# Altium integrated library ind-WE-LHMI (rev21a).IntLib: 164 symbols (part 1 of 3)
Pins are listed as number, name and electrical type; pins without a type are passive.

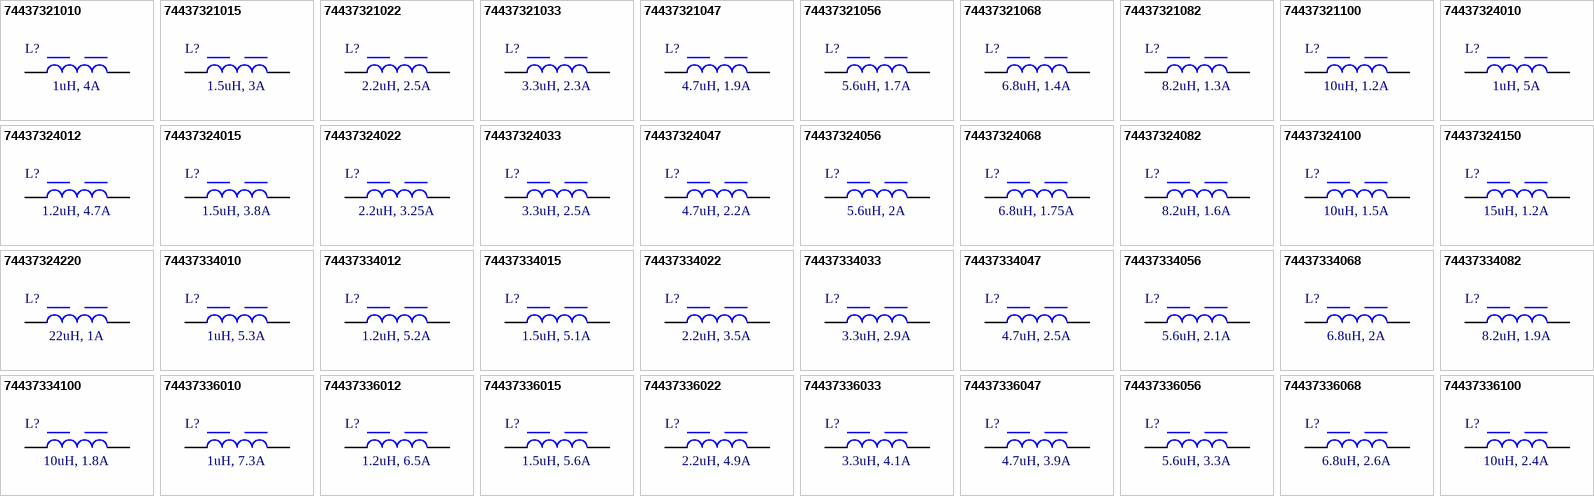
[diagram p0: symbols 74437321010 to 74437336100]

## 74437321010
designator L?, comment 1uH, 4A
WE-LHMI SMT Power Inductor, size 4012, 1uH, 4A; Manufacturer: Wurth Elektronik; Manufacturer Part Number: 74437321010; Self Resonant Frequency: 90MHz; DC Resistance typ.: 41mOhm; DC Resistance max.: 47mOhm; Saturation Current @10%: 5.65A; Saturation Current @30%: 10A; ComponentLink1Description: Manufacturer; ComponentLink1URL: http://www.we-online.de; ComponentLink2Description: Datasheet; ComponentLink2URL: https://www.we-online.com/catalog/datasheet/74437321010.pdf; Mounting Technology: SMT; Operating Temperature: -40 to +125degC; Packaging: Tape and Reel; Inductance: 1uH; Rated Current: 4A; Size: 4012; Height: 1mm; Length: 4.06mm; Width: 4.06mm
footprint WE-LHMI_4012
pins: 1, 2

## 74437321015
designator L?, comment 1.5uH, 3A
WE-LHMI SMT Power Inductor, size 4012, 1.5uH, 3A; Manufacturer: Wurth Elektronik; Manufacturer Part Number: 74437321015; Self Resonant Frequency: 60MHz; DC Resistance typ.: 55mOhm; DC Resistance max.: 63.3mOhm; Saturation Current @10%: 2.7A; Saturation Current @30%: 5.1A; ComponentLink1Description: Manufacturer; ComponentLink1URL: http://www.we-online.de; ComponentLink2Description: Datasheet; ComponentLink2URL: https://www.we-online.com/catalog/datasheet/74437321015.pdf; Mounting Technology: SMT; Operating Temperature: -40 to +125degC; Packaging: Tape and Reel; Inductance: 1.5uH; Rated Current: 3A; Size: 4012; Height: 1mm; Length: 4.06mm; Width: 4.06mm
footprint WE-LHMI_4012
pins: 1, 2

## 74437321022
designator L?, comment 2.2uH, 2.5A
WE-LHMI SMT Power Inductor, size 4012, 2.2uH, 2.5A; Manufacturer: Wurth Elektronik; Manufacturer Part Number: 74437321022; Self Resonant Frequency: 55MHz; DC Resistance typ.: 69.2mOhm; DC Resistance max.: 80mOhm; Saturation Current @10%: 3.2A; Saturation Current @30%: 6.2A; ComponentLink1Description: Manufacturer; ComponentLink1URL: http://www.we-online.de; ComponentLink2Description: Datasheet; ComponentLink2URL: https://www.we-online.com/catalog/datasheet/74437321022.pdf; Mounting Technology: SMT; Operating Temperature: -40 to +125degC; Packaging: Tape and Reel; Inductance: 2.2uH; Rated Current: 2.5A; Size: 4012; Height: 1mm; Length: 4.06mm; Width: 4.06mm
footprint WE-LHMI_4012
pins: 1, 2

## 74437321033
designator L?, comment 3.3uH, 2.3A
WE-LHMI SMT Power Inductor, size 4012, 3.3uH, 2.3A; Manufacturer: Wurth Elektronik; Manufacturer Part Number: 74437321033; Self Resonant Frequency: 40MHz; DC Resistance typ.: 84mOhm; DC Resistance max.: 97mOhm; Saturation Current @10%: 2.6A; Saturation Current @30%: 4.8A; ComponentLink1Description: Manufacturer; ComponentLink1URL: http://www.we-online.de; ComponentLink2Description: Datasheet; ComponentLink2URL: https://www.we-online.com/catalog/datasheet/74437321033.pdf; Mounting Technology: SMT; Operating Temperature: -40 to +125degC; Packaging: Tape and Reel; Inductance: 3.3uH; Rated Current: 2.3A; Size: 4012; Height: 1mm; Length: 4.06mm; Width: 4.06mm
footprint WE-LHMI_4012
pins: 1, 2

## 74437321047
designator L?, comment 4.7uH, 1.9A
WE-LHMI SMT Power Inductor, size 4012, 4.7uH, 1.9A; Manufacturer: Wurth Elektronik; Manufacturer Part Number: 74437321047; Self Resonant Frequency: 34MHz; DC Resistance typ.: 128mOhm; DC Resistance max.: 145mOhm; Saturation Current @10%: 2.1A; Saturation Current @30%: 4.1A; ComponentLink1Description: Manufacturer; ComponentLink1URL: http://www.we-online.de; ComponentLink2Description: Datasheet; ComponentLink2URL: https://www.we-online.com/catalog/datasheet/74437321047.pdf; Mounting Technology: SMT; Operating Temperature: -40 to +125degC; Packaging: Tape and Reel; Inductance: 4.7uH; Rated Current: 1.9A; Size: 4012; Height: 1mm; Length: 4.06mm; Width: 4.06mm
footprint WE-LHMI_4012
pins: 1, 2

## 74437321056
designator L?, comment 5.6uH, 1.7A
WE-LHMI SMT Power Inductor, size 4012, 5.6uH, 1.7A; Manufacturer: Wurth Elektronik; Manufacturer Part Number: 74437321056; Self Resonant Frequency: 28MHz; DC Resistance typ.: 180mOhm; DC Resistance max.: 208mOhm; Saturation Current @10%: 1.95A; Saturation Current @30%: 3.65A; ComponentLink1Description: Manufacturer; ComponentLink1URL: http://www.we-online.de; ComponentLink2Description: Datasheet; ComponentLink2URL: https://www.we-online.com/catalog/datasheet/74437321056.pdf; Mounting Technology: SMT; Operating Temperature: -40 to +125degC; Packaging: Tape and Reel; Inductance: 5.6uH; Rated Current: 1.7A; Size: 4012; Height: 1mm; Length: 4.06mm; Width: 4.06mm
footprint WE-LHMI_4012
pins: 1, 2

## 74437321068
designator L?, comment 6.8uH, 1.4A
WE-LHMI SMT Power Inductor, size 4012, 6.8uH, 1.4A; Manufacturer: Wurth Elektronik; Manufacturer Part Number: 74437321068; Self Resonant Frequency: 25MHz; DC Resistance typ.: 300mOhm; DC Resistance max.: 360mOhm; Saturation Current @10%: 1.65A; Saturation Current @30%: 3.05A; ComponentLink1Description: Manufacturer; ComponentLink1URL: http://www.we-online.de; ComponentLink2Description: Datasheet; ComponentLink2URL: https://www.we-online.com/catalog/datasheet/74437321068.pdf; Mounting Technology: SMT; Operating Temperature: -40 to +125degC; Packaging: Tape and Reel; Inductance: 6.8uH; Rated Current: 1.4A; Size: 4012; Height: 1mm; Length: 4.06mm; Width: 4.06mm
footprint WE-LHMI_4012
pins: 1, 2

## 74437321082
designator L?, comment 8.2uH, 1.3A
WE-LHMI SMT Power Inductor, size 4012, 8.2uH, 1.3A; Manufacturer: Wurth Elektronik; Manufacturer Part Number: 74437321082; Self Resonant Frequency: 24MHz; DC Resistance typ.: 313mOhm; DC Resistance max.: 376mOhm; Saturation Current @10%: 1.65A; Saturation Current @30%: 2.85A; ComponentLink1Description: Manufacturer; ComponentLink1URL: http://www.we-online.de; ComponentLink2Description: Datasheet; ComponentLink2URL: https://www.we-online.com/catalog/datasheet/74437321082.pdf; Mounting Technology: SMT; Operating Temperature: -40 to +125degC; Packaging: Tape and Reel; Inductance: 8.2uH; Rated Current: 1.3A; Size: 4012; Height: 1mm; Length: 4.06mm; Width: 4.06mm
footprint WE-LHMI_4012
pins: 1, 2

## 74437321100
designator L?, comment 10uH, 1.2A
WE-LHMI SMT Power Inductor, size 4012, 10uH, 1.2A; Manufacturer: Wurth Elektronik; Manufacturer Part Number: 74437321100; Self Resonant Frequency: 23MHz; DC Resistance typ.: 410mOhm; DC Resistance max.: 463mOhm; Saturation Current @10%: 1.5A; Saturation Current @30%: 2.65A; ComponentLink1Description: Manufacturer; ComponentLink1URL: http://www.we-online.de; ComponentLink2Description: Datasheet; ComponentLink2URL: https://www.we-online.com/catalog/datasheet/74437321100.pdf; Mounting Technology: SMT; Operating Temperature: -40 to +125degC; Packaging: Tape and Reel; Inductance: 10uH; Rated Current: 1.2A; Size: 4012; Height: 1mm; Length: 4.06mm; Width: 4.06mm
footprint WE-LHMI_4012
pins: 1, 2

## 74437324010
designator L?, comment 1uH, 5A
WE-LHMI SMT Power Inductor, size 4020, 1uH, 5A; Manufacturer: Wurth Elektronik; Manufacturer Part Number: 74437324010; Self Resonant Frequency: 89MHz; DC Resistance typ.: 22mOhm; DC Resistance max.: 27mOhm; Saturation Current @10%: 6.5A; Saturation Current @30%: 12.5A; ComponentLink1Description: Manufacturer; ComponentLink1URL: http://www.we-online.de; ComponentLink2Description: Datasheet; ComponentLink2URL: https://www.we-online.com/catalog/datasheet/74437324010.pdf; Mounting Technology: SMT; Operating Temperature: -40 to +125degC; Packaging: Tape and Reel; Inductance: 1uH; Rated Current: 5A; Size: 4020; Height: 1.8mm; Length: 4.06mm; Width: 4.06mm
footprint WE-LHMI_4020
pins: 1, 2

## 74437324012
designator L?, comment 1.2uH, 4.7A
WE-LHMI SMT Power Inductor, size 4020, 1.2uH, 4.7A; Manufacturer: Wurth Elektronik; Manufacturer Part Number: 74437324012; Self Resonant Frequency: 71MHz; DC Resistance typ.: 25mOhm; DC Resistance max.: 30mOhm; Saturation Current @10%: 6.3A; Saturation Current @30%: 11.6A; ComponentLink1Description: Manufacturer; ComponentLink1URL: http://www.we-online.de; ComponentLink2Description: Datasheet; ComponentLink2URL: https://www.we-online.com/catalog/datasheet/74437324012.pdf; Mounting Technology: SMT; Operating Temperature: -40 to +125degC; Packaging: Tape and Reel; Inductance: 1.2uH; Rated Current: 4.7A; Size: 4020; Height: 1.8mm; Length: 4.06mm; Width: 4.06mm
footprint WE-LHMI_4020
pins: 1, 2

## 74437324015
designator L?, comment 1.5uH, 3.8A
WE-LHMI SMT Power Inductor, size 4020, 1.5uH, 3.8A; Manufacturer: Wurth Elektronik; Manufacturer Part Number: 74437324015; Self Resonant Frequency: 64MHz; DC Resistance typ.: 34.8mOhm; DC Resistance max.: 42mOhm; Saturation Current @10%: 5.65A; Saturation Current @30%: 10.1A; ComponentLink1Description: Manufacturer; ComponentLink1URL: http://www.we-online.de; ComponentLink2Description: Datasheet; ComponentLink2URL: https://www.we-online.com/catalog/datasheet/74437324015.pdf; Mounting Technology: SMT; Operating Temperature: -40 to +125degC; Packaging: Tape and Reel; Inductance: 1.5uH; Rated Current: 3.8A; Size: 4020; Height: 1.8mm; Length: 4.06mm; Width: 4.06mm
footprint WE-LHMI_4020
pins: 1, 2

## 74437324022
designator L?, comment 2.2uH, 3.25A
WE-LHMI SMT Power Inductor, size 4020, 2.2uH, 3.25A; Manufacturer: Wurth Elektronik; Manufacturer Part Number: 74437324022; Self Resonant Frequency: 49MHz; DC Resistance typ.: 51mOhm; DC Resistance max.: 61mOhm; Saturation Current @10%: 4.45A; Saturation Current @30%: 8.4A; ComponentLink1Description: Manufacturer; ComponentLink1URL: http://www.we-online.de; ComponentLink2Description: Datasheet; ComponentLink2URL: https://www.we-online.com/catalog/datasheet/74437324022.pdf; Mounting Technology: SMT; Operating Temperature: -40 to +125degC; Packaging: Tape and Reel; Inductance: 2.2uH; Rated Current: 3.25A; Size: 4020; Height: 1.8mm; Length: 4.06mm; Width: 4.06mm
footprint WE-LHMI_4020
pins: 1, 2

## 74437324033
designator L?, comment 3.3uH, 2.5A
WE-LHMI SMT Power Inductor, size 4020, 3.3uH, 2.5A; Manufacturer: Wurth Elektronik; Manufacturer Part Number: 74437324033; Self Resonant Frequency: 40MHz; DC Resistance typ.: 69mOhm; DC Resistance max.: 76mOhm; Saturation Current @10%: 2.75A; Saturation Current @30%: 5.45A; ComponentLink1Description: Manufacturer; ComponentLink1URL: http://www.we-online.de; ComponentLink2Description: Datasheet; ComponentLink2URL: https://www.we-online.com/catalog/datasheet/74437324033.pdf; Mounting Technology: SMT; Operating Temperature: -40 to +125degC; Packaging: Tape and Reel; Inductance: 3.3uH; Rated Current: 2.5A; Size: 4020; Height: 1.8mm; Length: 4.06mm; Width: 4.06mm
footprint WE-LHMI_4020
pins: 1, 2

## 74437324047
designator L?, comment 4.7uH, 2.2A
WE-LHMI SMT Power Inductor, size 4020, 4.7uH, 2.2A; Manufacturer: Wurth Elektronik; Manufacturer Part Number: 74437324047; Self Resonant Frequency: 31MHz; DC Resistance typ.: 95mOhm; DC Resistance max.: 105mOhm; Saturation Current @10%: 2.45A; Saturation Current @30%: 5.4A; ComponentLink1Description: Manufacturer; ComponentLink1URL: http://www.we-online.de; ComponentLink2Description: Datasheet; ComponentLink2URL: https://www.we-online.com/catalog/datasheet/74437324047.pdf; Mounting Technology: SMT; Operating Temperature: -40 to +125degC; Packaging: Tape and Reel; Inductance: 4.7uH; Rated Current: 2.2A; Size: 4020; Height: 1.8mm; Length: 4.06mm; Width: 4.06mm
footprint WE-LHMI_4020
pins: 1, 2

## 74437324056
designator L?, comment 5.6uH, 2A
WE-LHMI SMT Power Inductor, size 4020, 5.6uH, 2A; Manufacturer: Wurth Elektronik; Manufacturer Part Number: 74437324056; Self Resonant Frequency: 30MHz; DC Resistance typ.: 120mOhm; DC Resistance max.: 125mOhm; Saturation Current @10%: 2.4A; Saturation Current @30%: 5.1A; ComponentLink1Description: Manufacturer; ComponentLink1URL: http://www.we-online.de; ComponentLink2Description: Datasheet; ComponentLink2URL: https://www.we-online.com/catalog/datasheet/74437324056.pdf; Mounting Technology: SMT; Operating Temperature: -40 to +125degC; Packaging: Tape and Reel; Inductance: 5.6uH; Rated Current: 2A; Size: 4020; Height: 1.8mm; Length: 4.06mm; Width: 4.06mm
footprint WE-LHMI_4020
pins: 1, 2

## 74437324068
designator L?, comment 6.8uH, 1.75A
WE-LHMI SMT Power Inductor, size 4020, 6.8uH, 1.75A; Manufacturer: Wurth Elektronik; Manufacturer Part Number: 74437324068; Self Resonant Frequency: 29MHz; DC Resistance typ.: 150mOhm; DC Resistance max.: 172mOhm; Saturation Current @10%: 2.4A; Saturation Current @30%: 4.75A; ComponentLink1Description: Manufacturer; ComponentLink1URL: http://www.we-online.de; ComponentLink2Description: Datasheet; ComponentLink2URL: https://www.we-online.com/catalog/datasheet/74437324068.pdf; Mounting Technology: SMT; Operating Temperature: -40 to +125degC; Packaging: Tape and Reel; Inductance: 6.8uH; Rated Current: 1.75A; Size: 4020; Height: 1.8mm; Length: 4.06mm; Width: 4.06mm
footprint WE-LHMI_4020
pins: 1, 2

## 74437324082
designator L?, comment 8.2uH, 1.6A
WE-LHMI SMT Power Inductor, size 4020, 8.2uH, 1.6A; Manufacturer: Wurth Elektronik; Manufacturer Part Number: 74437324082; Self Resonant Frequency: 22MHz; DC Resistance typ.: 158mOhm; DC Resistance max.: 180mOhm; Saturation Current @10%: 1.8A; Saturation Current @30%: 3.8A; ComponentLink1Description: Manufacturer; ComponentLink1URL: http://www.we-online.de; ComponentLink2Description: Datasheet; ComponentLink2URL: https://www.we-online.com/catalog/datasheet/74437324082.pdf; Mounting Technology: SMT; Operating Temperature: -40 to +125degC; Packaging: Tape and Reel; Inductance: 8.2uH; Rated Current: 1.6A; Size: 4020; Height: 1.8mm; Length: 4.06mm; Width: 4.06mm
footprint WE-LHMI_4020
pins: 1, 2

## 74437324100
designator L?, comment 10uH, 1.5A
WE-LHMI SMT Power Inductor, size 4020, 10uH, 1.5A; Manufacturer: Wurth Elektronik; Manufacturer Part Number: 74437324100; Self Resonant Frequency: 23MHz; DC Resistance typ.: 215mOhm; DC Resistance max.: 243mOhm; Saturation Current @30%: 3.15A; ComponentLink1Description: Manufacturer; ComponentLink1URL: http://www.we-online.de; ComponentLink2Description: Datasheet; ComponentLink2URL: https://www.we-online.com/catalog/datasheet/74437324100.pdf; Mounting Technology: SMT; Operating Temperature: -40 to +125degC; Packaging: Tape and Reel; Inductance: 10uH; Rated Current: 1.5A; Saturation Current @10%: 1.5A; Size: 4020; Height: 1.8mm; Length: 4.06mm; Width: 4.06mm
footprint WE-LHMI_4020
pins: 1, 2

## 74437324150
designator L?, comment 15uH, 1.2A
WE-LHMI SMT Power Inductor, size 4020, 15uH, 1.2A; Manufacturer: Wurth Elektronik; Manufacturer Part Number: 74437324150; Self Resonant Frequency: 17MHz; DC Resistance typ.: 325mOhm; DC Resistance max.: 374mOhm; Saturation Current @10%: 1.35A; Saturation Current @30%: 2.75A; ComponentLink1Description: Manufacturer; ComponentLink1URL: http://www.we-online.de; ComponentLink2Description: Datasheet; ComponentLink2URL: https://www.we-online.com/catalog/datasheet/74437324150.pdf; Mounting Technology: SMT; Operating Temperature: -40 to +125degC; Packaging: Tape and Reel; Inductance: 15uH; Rated Current: 1.2A; Size: 4020; Height: 1.8mm; Length: 4.06mm; Width: 4.06mm
footprint WE-LHMI_4020
pins: 1, 2

## 74437324220
designator L?, comment 22uH, 1A
WE-LHMI SMT Power Inductor, size 4020, 22uH, 1A; Manufacturer: Wurth Elektronik; Manufacturer Part Number: 74437324220; Self Resonant Frequency: 14MHz; DC Resistance typ.: 470mOhm; DC Resistance max.: 500mOhm; Saturation Current @10%: 1.45A; Saturation Current @30%: 2.35A; ComponentLink1Description: Manufacturer; ComponentLink1URL: http://www.we-online.de; ComponentLink2Description: Datasheet; ComponentLink2URL: https://www.we-online.com/catalog/datasheet/74437324220.pdf; Mounting Technology: SMT; Operating Temperature: -40 to +125degC; Packaging: Tape and Reel; Inductance: 22uH; Rated Current: 1A; Size: 4020; Height: 1.8mm; Length: 4.06mm; Width: 4.06mm
footprint WE-LHMI_4020
pins: 1, 2

## 74437334010
designator L?, comment 1uH, 5.3A
WE-LHMI SMT Power Inductor, size 5020, 1uH, 5.3A; Manufacturer: Wurth Elektronik; Manufacturer Part Number: 74437334010; Self Resonant Frequency: 65MHz; DC Resistance typ.: 17.5mOhm; DC Resistance max.: 20mOhm; Saturation Current @10%: 9.2A; Saturation Current @30%: 17.7A; ComponentLink1Description: Manufacturer; ComponentLink1URL: http://www.we-online.de; ComponentLink2Description: Datasheet; ComponentLink2URL: https://www.we-online.com/catalog/datasheet/74437334010.pdf; Mounting Technology: SMT; Operating Temperature: -40 to +125degC; Packaging: Tape and Reel; Inductance: 1uH; Rated Current: 5.3A; Size: 5020; Height: 1.8mm; Length: 5.2mm; Width: 5.2mm
footprint WE-LHMI_5020
pins: 1, 2

## 74437334012
designator L?, comment 1.2uH, 5.2A
WE-LHMI SMT Power Inductor, size 5020, 1.2uH, 5.2A; Manufacturer: Wurth Elektronik; Manufacturer Part Number: 74437334012; Self Resonant Frequency: 60MHz; DC Resistance typ.: 23mOhm; DC Resistance max.: 28mOhm; Saturation Current @10%: 7.5A; Saturation Current @30%: 14A; ComponentLink1Description: Manufacturer; ComponentLink1URL: http://www.we-online.de; ComponentLink2Description: Datasheet; ComponentLink2URL: https://www.we-online.com/catalog/datasheet/74437334012.pdf; Mounting Technology: SMT; Operating Temperature: -40 to +125degC; Packaging: Tape and Reel; Inductance: 1.2uH; Rated Current: 5.2A; Size: 5020; Height: 1.8mm; Length: 5.2mm; Width: 5.2mm
footprint WE-LHMI_5020
pins: 1, 2

## 74437334015
designator L?, comment 1.5uH, 5.1A
WE-LHMI SMT Power Inductor, size 5020, 1.5uH, 5.1A; Manufacturer: Wurth Elektronik; Manufacturer Part Number: 74437334015; Self Resonant Frequency: 50MHz; DC Resistance typ.: 26.5mOhm; DC Resistance max.: 30.5mOhm; Saturation Current @10%: 6.6A; Saturation Current @30%: 13.6A; ComponentLink1Description: Manufacturer; ComponentLink1URL: http://www.we-online.de; ComponentLink2Description: Datasheet; ComponentLink2URL: https://www.we-online.com/catalog/datasheet/74437334015.pdf; Mounting Technology: SMT; Operating Temperature: -40 to +125degC; Packaging: Tape and Reel; Inductance: 1.5uH; Rated Current: 5.1A; Size: 5020; Height: 1.8mm; Length: 5.2mm; Width: 5.2mm
footprint WE-LHMI_5020
pins: 1, 2

## 74437334022
designator L?, comment 2.2uH, 3.5A
WE-LHMI SMT Power Inductor, size 5020, 2.2uH, 3.5A; Manufacturer: Wurth Elektronik; Manufacturer Part Number: 74437334022; Self Resonant Frequency: 46MHz; DC Resistance typ.: 42mOhm; DC Resistance max.: 50mOhm; Saturation Current @10%: 6.4A; Saturation Current @30%: 11.9A; ComponentLink1Description: Manufacturer; ComponentLink1URL: http://www.we-online.de; ComponentLink2Description: Datasheet; ComponentLink2URL: https://www.we-online.com/catalog/datasheet/74437334022.pdf; Mounting Technology: SMT; Operating Temperature: -40 to +125degC; Packaging: Tape and Reel; Inductance: 2.2uH; Rated Current: 3.5A; Size: 5020; Height: 1.8mm; Length: 5.2mm; Width: 5.2mm
footprint WE-LHMI_5020
pins: 1, 2

## 74437334033
designator L?, comment 3.3uH, 2.9A
WE-LHMI SMT Power Inductor, size 5020, 3.3uH, 2.9A; Manufacturer: Wurth Elektronik; Manufacturer Part Number: 74437334033; Self Resonant Frequency: 35MHz; DC Resistance typ.: 66mOhm; DC Resistance max.: 76mOhm; Saturation Current @10%: 5.25A; Saturation Current @30%: 9.6A; ComponentLink1Description: Manufacturer; ComponentLink1URL: http://www.we-online.de; ComponentLink2Description: Datasheet; ComponentLink2URL: https://www.we-online.com/catalog/datasheet/74437334033.pdf; Mounting Technology: SMT; Operating Temperature: -40 to +125degC; Packaging: Tape and Reel; Inductance: 3.3uH; Rated Current: 2.9A; Size: 5020; Height: 1.8mm; Length: 5.2mm; Width: 5.2mm
footprint WE-LHMI_5020
pins: 1, 2

## 74437334047
designator L?, comment 4.7uH, 2.5A
WE-LHMI SMT Power Inductor, size 5020, 4.7uH, 2.5A; Manufacturer: Wurth Elektronik; Manufacturer Part Number: 74437334047; Self Resonant Frequency: 27MHz; DC Resistance typ.: 103mOhm; DC Resistance max.: 116mOhm; Saturation Current @10%: 4.1A; Saturation Current @30%: 7.5A; ComponentLink1Description: Manufacturer; ComponentLink1URL: http://www.we-online.de; ComponentLink2Description: Datasheet; ComponentLink2URL: https://www.we-online.com/catalog/datasheet/74437334047.pdf; Mounting Technology: SMT; Operating Temperature: -40 to +125degC; Packaging: Tape and Reel; Inductance: 4.7uH; Rated Current: 2.5A; Size: 5020; Height: 1.8mm; Length: 5.2mm; Width: 5.2mm
footprint WE-LHMI_5020
pins: 1, 2

## 74437334056
designator L?, comment 5.6uH, 2.1A
WE-LHMI SMT Power Inductor, size 5020, 5.6uH, 2.1A; Manufacturer: Wurth Elektronik; Manufacturer Part Number: 74437334056; Self Resonant Frequency: 21MHz; DC Resistance typ.: 112mOhm; DC Resistance max.: 122mOhm; Saturation Current @10%: 3.7A; Saturation Current @30%: 7A; ComponentLink1Description: Manufacturer; ComponentLink1URL: http://www.we-online.de; ComponentLink2Description: Datasheet; ComponentLink2URL: https://www.we-online.com/catalog/datasheet/74437334056.pdf; Mounting Technology: SMT; Operating Temperature: -40 to +125degC; Packaging: Tape and Reel; Inductance: 5.6uH; Rated Current: 2.1A; Size: 5020; Height: 1.8mm; Length: 5.2mm; Width: 5.2mm
footprint WE-LHMI_5020
pins: 1, 2

## 74437334068
designator L?, comment 6.8uH, 2A
WE-LHMI SMT Power Inductor, size 5020, 6.8uH, 2A; Manufacturer: Wurth Elektronik; Manufacturer Part Number: 74437334068; Self Resonant Frequency: 20.5MHz; DC Resistance typ.: 130mOhm; DC Resistance max.: 150mOhm; Saturation Current @10%: 3.05A; Saturation Current @30%: 5.55A; ComponentLink1Description: Manufacturer; ComponentLink1URL: http://www.we-online.de; ComponentLink2Description: Datasheet; ComponentLink2URL: https://www.we-online.com/catalog/datasheet/74437334068.pdf; Mounting Technology: SMT; Operating Temperature: -40 to +125degC; Packaging: Tape and Reel; Inductance: 6.8uH; Rated Current: 2A; Size: 5020; Height: 1.8mm; Length: 5.2mm; Width: 5.2mm
footprint WE-LHMI_5020
pins: 1, 2

## 74437334082
designator L?, comment 8.2uH, 1.9A
WE-LHMI SMT Power Inductor, size 5020, 8.2uH, 1.9A; Manufacturer: Wurth Elektronik; Manufacturer Part Number: 74437334082; Self Resonant Frequency: 20MHz; DC Resistance typ.: 148mOhm; DC Resistance max.: 171mOhm; Saturation Current @10%: 3A; Saturation Current @30%: 5.65A; ComponentLink1Description: Manufacturer; ComponentLink1URL: http://www.we-online.de; ComponentLink2Description: Datasheet; ComponentLink2URL: https://www.we-online.com/catalog/datasheet/74437334082.pdf; Mounting Technology: SMT; Operating Temperature: -40 to +125degC; Packaging: Tape and Reel; Inductance: 8.2uH; Rated Current: 1.9A; Size: 5020; Height: 1.8mm; Length: 5.2mm; Width: 5.2mm
footprint WE-LHMI_5020
pins: 1, 2

## 74437334100
designator L?, comment 10uH, 1.8A
WE-LHMI SMT Power Inductor, size 5020, 10uH, 1.8A; Manufacturer: Wurth Elektronik; Manufacturer Part Number: 74437334100; Self Resonant Frequency: 16MHz; DC Resistance typ.: 180mOhm; DC Resistance max.: 199mOhm; Saturation Current @10%: 2.7A; Saturation Current @30%: 5.15A; ComponentLink1Description: Manufacturer; ComponentLink1URL: http://www.we-online.de; ComponentLink2Description: Datasheet; ComponentLink2URL: https://www.we-online.com/catalog/datasheet/74437334100.pdf; Mounting Technology: SMT; Operating Temperature: -40 to +125degC; Packaging: Tape and Reel; Inductance: 10uH; Rated Current: 1.8A; Size: 5020; Height: 1.8mm; Length: 5.2mm; Width: 5.2mm
footprint WE-LHMI_5020
pins: 1, 2

## 74437336010
designator L?, comment 1uH, 7.3A
WE-LHMI SMT Power Inductor, size 5030, 1uH, 7.3A; Manufacturer: Wurth Elektronik; Manufacturer Part Number: 74437336010; Self Resonant Frequency: 60MHz; DC Resistance typ.: 13mOhm; DC Resistance max.: 14mOhm; Saturation Current @10%: 7.4A; Saturation Current @30%: 14.2A; ComponentLink1Description: Manufacturer; ComponentLink1URL: http://www.we-online.de; ComponentLink2Description: Datasheet; ComponentLink2URL: https://www.we-online.com/catalog/datasheet/74437336010.pdf; Mounting Technology: SMT; Operating Temperature: -40 to +125degC; Packaging: Tape and Reel; Inductance: 1uH; Rated Current: 7.3A; Size: 5030; Height: 2.8mm; Length: 5.2mm; Width: 5.2mm
footprint WE-LHMI_5030
pins: 1, 2

## 74437336012
designator L?, comment 1.2uH, 6.5A
WE-LHMI SMT Power Inductor, size 5030, 1.2uH, 6.5A; Manufacturer: Wurth Elektronik; Manufacturer Part Number: 74437336012; Self Resonant Frequency: 50MHz; DC Resistance typ.: 14mOhm; DC Resistance max.: 16mOhm; Saturation Current @10%: 7.5A; Saturation Current @30%: 13.9A; ComponentLink1Description: Manufacturer; ComponentLink1URL: http://www.we-online.de; ComponentLink2Description: Datasheet; ComponentLink2URL: https://www.we-online.com/catalog/datasheet/74437336012.pdf; Mounting Technology: SMT; Operating Temperature: -40 to +125degC; Packaging: Tape and Reel; Inductance: 1.2uH; Rated Current: 6.5A; Size: 5030; Height: 2.8mm; Length: 5.2mm; Width: 5.2mm
footprint WE-LHMI_5030
pins: 1, 2

## 74437336015
designator L?, comment 1.5uH, 5.6A
WE-LHMI SMT Power Inductor, size 5030, 1.5uH, 5.6A; Manufacturer: Wurth Elektronik; Manufacturer Part Number: 74437336015; Self Resonant Frequency: 45MHz; DC Resistance typ.: 16mOhm; DC Resistance max.: 25mOhm; Saturation Current @10%: 7.7A; Saturation Current @30%: 14.2A; ComponentLink1Description: Manufacturer; ComponentLink1URL: http://www.we-online.de; ComponentLink2Description: Datasheet; ComponentLink2URL: https://www.we-online.com/catalog/datasheet/74437336015.pdf; Mounting Technology: SMT; Operating Temperature: -40 to +125degC; Packaging: Tape and Reel; Inductance: 1.5uH; Rated Current: 5.6A; Size: 5030; Height: 2.8mm; Length: 5.2mm; Width: 5.2mm
footprint WE-LHMI_5030
pins: 1, 2

## 74437336022
designator L?, comment 2.2uH, 4.9A
WE-LHMI SMT Power Inductor, size 5030, 2.2uH, 4.9A; Manufacturer: Wurth Elektronik; Manufacturer Part Number: 74437336022; Self Resonant Frequency: 42MHz; DC Resistance typ.: 25mOhm; DC Resistance max.: 35mOhm; Saturation Current @10%: 7A; Saturation Current @30%: 14A; ComponentLink1Description: Manufacturer; ComponentLink1URL: http://www.we-online.de; ComponentLink2Description: Datasheet; ComponentLink2URL: https://www.we-online.com/catalog/datasheet/74437336022.pdf; Mounting Technology: SMT; Operating Temperature: -40 to +125degC; Packaging: Tape and Reel; Inductance: 2.2uH; Rated Current: 4.9A; Size: 5030; Height: 2.8mm; Length: 5.2mm; Width: 5.2mm
footprint WE-LHMI_5030
pins: 1, 2

## 74437336033
designator L?, comment 3.3uH, 4.1A
WE-LHMI SMT Power Inductor, size 5030, 3.3uH, 4.1A; Manufacturer: Wurth Elektronik; Manufacturer Part Number: 74437336033; Self Resonant Frequency: 27MHz; DC Resistance typ.: 32mOhm; DC Resistance max.: 38mOhm; Saturation Current @10%: 5.55A; Saturation Current @30%: 10.9A; ComponentLink1Description: Manufacturer; ComponentLink1URL: http://www.we-online.de; ComponentLink2Description: Datasheet; ComponentLink2URL: https://www.we-online.com/catalog/datasheet/74437336033.pdf; Mounting Technology: SMT; Operating Temperature: -40 to +125degC; Packaging: Tape and Reel; Inductance: 3.3uH; Rated Current: 4.1A; Size: 5030; Height: 2.8mm; Length: 5.2mm; Width: 5.2mm
footprint WE-LHMI_5030
pins: 1, 2

## 74437336047
designator L?, comment 4.7uH, 3.9A
WE-LHMI SMT Power Inductor, size 5030, 4.7uH, 3.9A; Manufacturer: Wurth Elektronik; Manufacturer Part Number: 74437336047; Self Resonant Frequency: 25MHz; DC Resistance typ.: 50mOhm; DC Resistance max.: 53mOhm; Saturation Current @10%: 3.85A; Saturation Current @30%: 7.6A; ComponentLink1Description: Manufacturer; ComponentLink1URL: http://www.we-online.de; ComponentLink2Description: Datasheet; ComponentLink2URL: https://www.we-online.com/catalog/datasheet/74437336047.pdf; Mounting Technology: SMT; Operating Temperature: -40 to +125degC; Packaging: Tape and Reel; Inductance: 4.7uH; Rated Current: 3.9A; Size: 5030; Height: 2.8mm; Length: 5.2mm; Width: 5.2mm
footprint WE-LHMI_5030
pins: 1, 2

## 74437336056
designator L?, comment 5.6uH, 3.3A
WE-LHMI SMT Power Inductor, size 5030, 5.6uH, 3.3A; Manufacturer: Wurth Elektronik; Manufacturer Part Number: 74437336056; Self Resonant Frequency: 22MHz; DC Resistance typ.: 55mOhm; DC Resistance max.: 63mOhm; Saturation Current @10%: 3.85A; Saturation Current @30%: 7.7A; ComponentLink1Description: Manufacturer; ComponentLink1URL: http://www.we-online.de; ComponentLink2Description: Datasheet; ComponentLink2URL: https://www.we-online.com/catalog/datasheet/74437336056.pdf; Mounting Technology: SMT; Operating Temperature: -40 to +125degC; Packaging: Tape and Reel; Inductance: 5.6uH; Rated Current: 3.3A; Size: 5030; Height: 2.8mm; Length: 5.2mm; Width: 5.2mm
footprint WE-LHMI_5030
pins: 1, 2

## 74437336068
designator L?, comment 6.8uH, 2.6A
WE-LHMI SMT Power Inductor, size 5030, 6.8uH, 2.6A; Manufacturer: Wurth Elektronik; Manufacturer Part Number: 74437336068; Self Resonant Frequency: 20MHz; DC Resistance typ.: 68mOhm; DC Resistance max.: 76.2mOhm; Saturation Current @10%: 2.9A; Saturation Current @30%: 5.9A; ComponentLink1Description: Manufacturer; ComponentLink1URL: http://www.we-online.de; ComponentLink2Description: Datasheet; ComponentLink2URL: https://www.we-online.com/catalog/datasheet/74437336068.pdf; Mounting Technology: SMT; Operating Temperature: -40 to +125degC; Packaging: Tape and Reel; Inductance: 6.8uH; Rated Current: 2.6A; Size: 5030; Height: 2.8mm; Length: 5.2mm; Width: 5.2mm
footprint WE-LHMI_5030
pins: 1, 2

## 74437336100
designator L?, comment 10uH, 2.4A
WE-LHMI SMT Power Inductor, size 5030, 10uH, 2.4A; Manufacturer: Wurth Elektronik; Manufacturer Part Number: 74437336100; Self Resonant Frequency: 16MHz; DC Resistance typ.: 110mOhm; DC Resistance max.: 128mOhm; Saturation Current @10%: 2.8A; Saturation Current @30%: 5.35A; ComponentLink1Description: Manufacturer; ComponentLink1URL: http://www.we-online.de; ComponentLink2Description: Datasheet; ComponentLink2URL: https://www.we-online.com/catalog/datasheet/74437336100.pdf; Mounting Technology: SMT; Operating Temperature: -40 to +125degC; Packaging: Tape and Reel; Inductance: 10uH; Rated Current: 2.4A; Size: 5030; Height: 2.8mm; Length: 5.2mm; Width: 5.2mm
footprint WE-LHMI_5030
pins: 1, 2

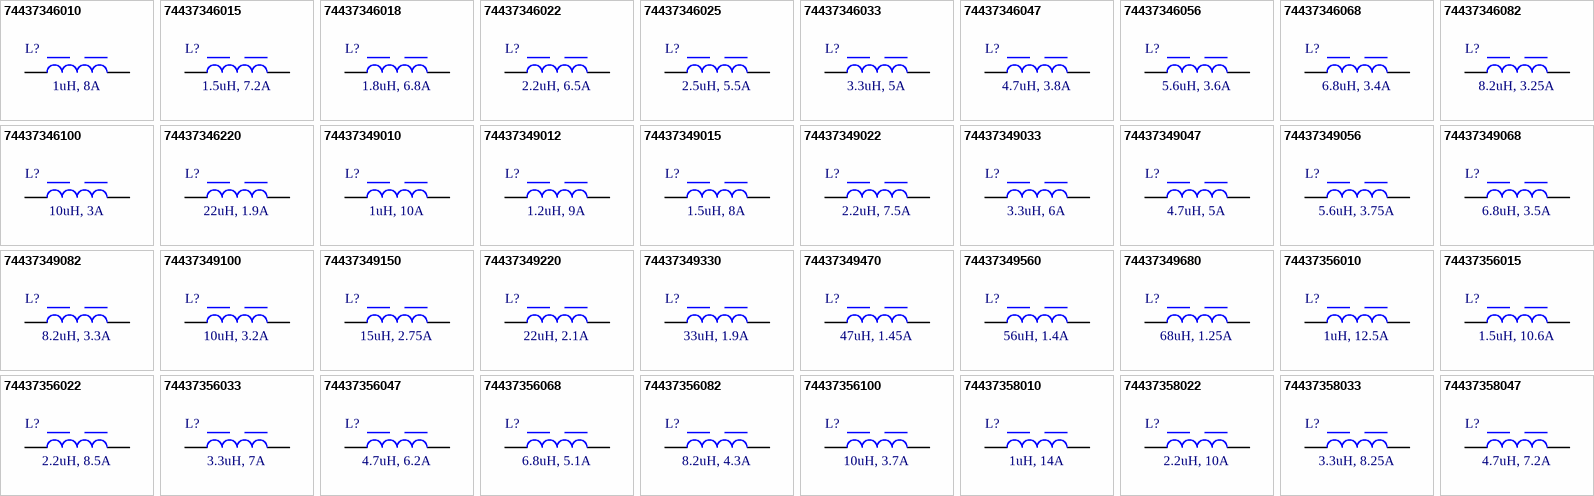
[diagram p1: symbols 74437346010 to 74437358047]

## 74437346010
designator L?, comment 1uH, 8A
WE-LHMI SMT Power Inductor, size 7030, 1uH, 8A; Manufacturer: Wurth Elektronik; Manufacturer Part Number: 74437346010; Self Resonant Frequency: 54MHz; DC Resistance typ.: 8.3mOhm; DC Resistance max.: 10mOhm; Saturation Current @10%: 14.7A; Saturation Current @30%: 29A; ComponentLink1Description: Manufacturer; ComponentLink1URL: http://www.we-online.de; ComponentLink2Description: Datasheet; ComponentLink2URL: https://www.we-online.com/catalog/datasheet/74437346010.pdf; Mounting Technology: SMT; Operating Temperature: -40 to +125degC; Packaging: Tape and Reel; Inductance: 1uH; Rated Current: 8A; Size: 7030; Height: 2.8mm; Length: 6.6mm; Width: 6.6mm
footprint WE-LHMI_7030
pins: 1, 2

## 74437346015
designator L?, comment 1.5uH, 7.2A
WE-LHMI SMT Power Inductor, size 7030, 1.5uH, 7.2A; Manufacturer: Wurth Elektronik; Manufacturer Part Number: 74437346015; Self Resonant Frequency: 45MHz; DC Resistance typ.: 13mOhm; DC Resistance max.: 15mOhm; Saturation Current @10%: 11.2A; Saturation Current @30%: 27.6A; ComponentLink1Description: Manufacturer; ComponentLink1URL: http://www.we-online.de; ComponentLink2Description: Datasheet; ComponentLink2URL: https://www.we-online.com/catalog/datasheet/74437346015.pdf; Mounting Technology: SMT; Operating Temperature: -40 to +125degC; Packaging: Tape and Reel; Inductance: 1.5uH; Rated Current: 7.2A; Size: 7030; Height: 2.8mm; Length: 6.6mm; Width: 6.6mm
footprint WE-LHMI_7030
pins: 1, 2

## 74437346018
designator L?, comment 1.8uH, 6.8A
WE-LHMI SMT Power Inductor, size 7030, 1.8uH, 6.8A; Manufacturer: Wurth Elektronik; Manufacturer Part Number: 74437346018; Self Resonant Frequency: 35MHz; DC Resistance typ.: 14mOhm; DC Resistance max.: 17mOhm; Saturation Current @10%: 10.2A; Saturation Current @30%: 21.4A; ComponentLink1Description: Manufacturer; ComponentLink1URL: http://www.we-online.de; ComponentLink2Description: Datasheet; ComponentLink2URL: https://www.we-online.com/catalog/datasheet/74437346018.pdf; Mounting Technology: SMT; Operating Temperature: -40 to +125degC; Packaging: Tape and Reel; Inductance: 1.8uH; Rated Current: 6.8A; Size: 7030; Height: 2.8mm; Length: 6.6mm; Width: 6.6mm
footprint WE-LHMI_7030
pins: 1, 2

## 74437346022
designator L?, comment 2.2uH, 6.5A
WE-LHMI SMT Power Inductor, size 7030, 2.2uH, 6.5A; Manufacturer: Wurth Elektronik; Manufacturer Part Number: 74437346022; Self Resonant Frequency: 32MHz; DC Resistance typ.: 18mOhm; DC Resistance max.: 20mOhm; Saturation Current @10%: 10A; Saturation Current @30%: 19.1A; ComponentLink1Description: Manufacturer; ComponentLink1URL: http://www.we-online.de; ComponentLink2Description: Datasheet; ComponentLink2URL: https://www.we-online.com/catalog/datasheet/74437346022.pdf; Mounting Technology: SMT; Operating Temperature: -40 to +125degC; Packaging: Tape and Reel; Inductance: 2.2uH; Rated Current: 6.5A; Size: 7030; Height: 2.8mm; Length: 6.6mm; Width: 6.6mm
footprint WE-LHMI_7030
pins: 1, 2

## 74437346025
designator L?, comment 2.5uH, 5.5A
WE-LHMI SMT Power Inductor, size 7030, 2.5uH, 5.5A; Manufacturer: Wurth Elektronik; Manufacturer Part Number: 74437346025; Self Resonant Frequency: 30MHz; DC Resistance typ.: 20mOhm; DC Resistance max.: 22mOhm; Saturation Current @10%: 8.5A; Saturation Current @30%: 17.3A; ComponentLink1Description: Manufacturer; ComponentLink1URL: http://www.we-online.de; ComponentLink2Description: Datasheet; ComponentLink2URL: https://www.we-online.com/catalog/datasheet/74437346025.pdf; Mounting Technology: SMT; Operating Temperature: -40 to +125degC; Packaging: Tape and Reel; Inductance: 2.5uH; Rated Current: 5.5A; Size: 7030; Height: 2.8mm; Length: 6.6mm; Width: 6.6mm
footprint WE-LHMI_7030
pins: 1, 2

## 74437346033
designator L?, comment 3.3uH, 5A
WE-LHMI SMT Power Inductor, size 7030, 3.3uH, 5A; Manufacturer: Wurth Elektronik; Manufacturer Part Number: 74437346033; Self Resonant Frequency: 27MHz; DC Resistance typ.: 28mOhm; DC Resistance max.: 30mOhm; Saturation Current @10%: 8.4A; Saturation Current @30%: 16.6A; ComponentLink1Description: Manufacturer; ComponentLink1URL: http://www.we-online.de; ComponentLink2Description: Datasheet; ComponentLink2URL: https://www.we-online.com/catalog/datasheet/74437346033.pdf; Mounting Technology: SMT; Operating Temperature: -40 to +125degC; Packaging: Tape and Reel; Inductance: 3.3uH; Rated Current: 5A; Size: 7030; Height: 2.8mm; Length: 6.6mm; Width: 6.6mm
footprint WE-LHMI_7030
pins: 1, 2

## 74437346047
designator L?, comment 4.7uH, 3.8A
WE-LHMI SMT Power Inductor, size 7030, 4.7uH, 3.8A; Manufacturer: Wurth Elektronik; Manufacturer Part Number: 74437346047; Self Resonant Frequency: 22MHz; DC Resistance typ.: 37mOhm; DC Resistance max.: 40mOhm; Saturation Current @10%: 7.5A; Saturation Current @30%: 15.5A; ComponentLink1Description: Manufacturer; ComponentLink1URL: http://www.we-online.de; ComponentLink2Description: Datasheet; ComponentLink2URL: https://www.we-online.com/catalog/datasheet/74437346047.pdf; Mounting Technology: SMT; Operating Temperature: -40 to +125degC; Packaging: Tape and Reel; Inductance: 4.7uH; Rated Current: 3.8A; Size: 7030; Height: 2.8mm; Length: 6.6mm; Width: 6.6mm
footprint WE-LHMI_7030
pins: 1, 2

## 74437346056
designator L?, comment 5.6uH, 3.6A
WE-LHMI SMT Power Inductor, size 7030, 5.6uH, 3.6A; Manufacturer: Wurth Elektronik; Manufacturer Part Number: 74437346056; Self Resonant Frequency: 20MHz; DC Resistance typ.: 43mOhm; DC Resistance max.: 48mOhm; Saturation Current @10%: 5.9A; Saturation Current @30%: 12.1A; ComponentLink1Description: Manufacturer; ComponentLink1URL: http://www.we-online.de; ComponentLink2Description: Datasheet; ComponentLink2URL: https://www.we-online.com/catalog/datasheet/74437346056.pdf; Mounting Technology: SMT; Operating Temperature: -40 to +125degC; Packaging: Tape and Reel; Inductance: 5.6uH; Rated Current: 3.6A; Size: 7030; Height: 2.8mm; Length: 6.6mm; Width: 6.6mm
footprint WE-LHMI_7030
pins: 1, 2

## 74437346068
designator L?, comment 6.8uH, 3.4A
WE-LHMI SMT Power Inductor, size 7030, 6.8uH, 3.4A; Manufacturer: Wurth Elektronik; Manufacturer Part Number: 74437346068; Self Resonant Frequency: 18MHz; DC Resistance typ.: 54mOhm; DC Resistance max.: 60mOhm; Saturation Current @10%: 5.45A; Saturation Current @30%: 10.6A; ComponentLink1Description: Manufacturer; ComponentLink1URL: http://www.we-online.de; ComponentLink2Description: Datasheet; ComponentLink2URL: https://www.we-online.com/catalog/datasheet/74437346068.pdf; Mounting Technology: SMT; Operating Temperature: -40 to +125degC; Packaging: Tape and Reel; Inductance: 6.8uH; Rated Current: 3.4A; Size: 7030; Height: 2.8mm; Length: 6.6mm; Width: 6.6mm
footprint WE-LHMI_7030
pins: 1, 2

## 74437346082
designator L?, comment 8.2uH, 3.25A
WE-LHMI SMT Power Inductor, size 7030, 8.2uH, 3.25A; Manufacturer: Wurth Elektronik; Manufacturer Part Number: 74437346082; Self Resonant Frequency: 17MHz; DC Resistance typ.: 64mOhm; DC Resistance max.: 68mOhm; Saturation Current @10%: 5.1A; Saturation Current @30%: 10.1A; ComponentLink1Description: Manufacturer; ComponentLink1URL: http://www.we-online.de; ComponentLink2Description: Datasheet; ComponentLink2URL: https://www.we-online.com/catalog/datasheet/74437346082.pdf; Mounting Technology: SMT; Operating Temperature: -40 to +125degC; Packaging: Tape and Reel; Inductance: 8.2uH; Rated Current: 3.25A; Size: 7030; Height: 2.8mm; Length: 6.6mm; Width: 6.6mm
footprint WE-LHMI_7030
pins: 1, 2

## 74437346100
designator L?, comment 10uH, 3A
WE-LHMI SMT Power Inductor, size 7030, 10uH, 3A; Manufacturer: Wurth Elektronik; Manufacturer Part Number: 74437346100; Self Resonant Frequency: 15MHz; DC Resistance typ.: 75mOhm; DC Resistance max.: 85mOhm; Saturation Current @10%: 5A; Saturation Current @30%: 9.8A; ComponentLink1Description: Manufacturer; ComponentLink1URL: http://www.we-online.de; ComponentLink2Description: Datasheet; ComponentLink2URL: https://www.we-online.com/catalog/datasheet/74437346100.pdf; Mounting Technology: SMT; Operating Temperature: -40 to +125degC; Packaging: Tape and Reel; Inductance: 10uH; Rated Current: 3A; Size: 7030; Height: 2.8mm; Length: 6.6mm; Width: 6.6mm
footprint WE-LHMI_7030
pins: 1, 2

## 74437346220
designator L?, comment 22uH, 1.9A
WE-LHMI SMT Power Inductor, size 7030, 22uH, 1.9A; Manufacturer: Wurth Elektronik; Manufacturer Part Number: 74437346220; Self Resonant Frequency: 10MHz; DC Resistance typ.: 165mOhm; DC Resistance max.: 190mOhm; Saturation Current @10%: 2.75A; Saturation Current @30%: 5.95A; ComponentLink1Description: Manufacturer; ComponentLink1URL: http://www.we-online.de; ComponentLink2Description: Datasheet; ComponentLink2URL: https://www.we-online.com/catalog/datasheet/74437346220.pdf; Mounting Technology: SMT; Operating Temperature: -40 to +125degC; Packaging: Tape and Reel; Inductance: 22uH; Rated Current: 1.9A; Size: 7030; Height: 2.8mm; Length: 6.6mm; Width: 6.6mm
footprint WE-LHMI_7030
pins: 1, 2

## 74437349010
designator L?, comment 1uH, 10A
WE-LHMI SMT Power Inductor, size 7050, 1uH, 10A; Manufacturer: Wurth Elektronik; Manufacturer Part Number: 74437349010; Self Resonant Frequency: 51MHz; DC Resistance typ.: 6.1mOhm; DC Resistance max.: 6.5mOhm; Saturation Current @10%: 13A; Saturation Current @30%: 25.8A; ComponentLink1Description: Manufacturer; ComponentLink1URL: http://www.we-online.de; ComponentLink2Description: Datasheet; ComponentLink2URL: https://www.we-online.com/catalog/datasheet/74437349010.pdf; Mounting Technology: SMT; Operating Temperature: -40 to +125degC; Packaging: Tape and Reel; Inductance: 1uH; Rated Current: 10A; Size: 7050; Height: 4.8mm; Length: 6.6mm; Width: 6.6mm
footprint WE-LHMI_7050
pins: 1, 2

## 74437349012
designator L?, comment 1.2uH, 9A
WE-LHMI SMT Power Inductor, size 7050, 1.2uH, 9A; Manufacturer: Wurth Elektronik; Manufacturer Part Number: 74437349012; Self Resonant Frequency: 45MHz; DC Resistance typ.: 7.2mOhm; DC Resistance max.: 7.5mOhm; Saturation Current @10%: 12A; Saturation Current @30%: 24A; ComponentLink1Description: Manufacturer; ComponentLink1URL: http://www.we-online.de; ComponentLink2Description: Datasheet; ComponentLink2URL: https://www.we-online.com/catalog/datasheet/74437349012.pdf; Mounting Technology: SMT; Operating Temperature: -40 to +125degC; Packaging: Tape and Reel; Inductance: 1.2uH; Rated Current: 9A; Size: 7050; Height: 4.8mm; Length: 6.6mm; Width: 6.6mm
footprint WE-LHMI_7050
pins: 1, 2

## 74437349015
designator L?, comment 1.5uH, 8A
WE-LHMI SMT Power Inductor, size 7050, 1.5uH, 8A; Manufacturer: Wurth Elektronik; Manufacturer Part Number: 74437349015; Self Resonant Frequency: 35MHz; DC Resistance typ.: 8.6mOhm; DC Resistance max.: 9mOhm; Saturation Current @10%: 9.7A; Saturation Current @30%: 18.7A; ComponentLink1Description: Manufacturer; ComponentLink1URL: http://www.we-online.de; ComponentLink2Description: Datasheet; ComponentLink2URL: https://www.we-online.com/catalog/datasheet/74437349015.pdf; Mounting Technology: SMT; Operating Temperature: -40 to +125degC; Packaging: Tape and Reel; Inductance: 1.5uH; Rated Current: 8A; Size: 7050; Height: 4.8mm; Length: 6.6mm; Width: 6.6mm
footprint WE-LHMI_7050
pins: 1, 2

## 74437349022
designator L?, comment 2.2uH, 7.5A
WE-LHMI SMT Power Inductor, size 7050, 2.2uH, 7.5A; Manufacturer: Wurth Elektronik; Manufacturer Part Number: 74437349022; Self Resonant Frequency: 30MHz; DC Resistance typ.: 11.2mOhm; DC Resistance max.: 12mOhm; Saturation Current @10%: 10.5A; Saturation Current @30%: 19.1A; ComponentLink1Description: Manufacturer; ComponentLink1URL: http://www.we-online.de; ComponentLink2Description: Datasheet; ComponentLink2URL: https://www.we-online.com/catalog/datasheet/74437349022.pdf; Mounting Technology: SMT; Operating Temperature: -40 to +125degC; Packaging: Tape and Reel; Inductance: 2.2uH; Rated Current: 7.5A; Size: 7050; Height: 4.8mm; Length: 6.6mm; Width: 6.6mm
footprint WE-LHMI_7050
pins: 1, 2

## 74437349033
designator L?, comment 3.3uH, 6A
WE-LHMI SMT Power Inductor, size 7050, 3.3uH, 6A; Manufacturer: Wurth Elektronik; Manufacturer Part Number: 74437349033; Self Resonant Frequency: 26MHz; DC Resistance typ.: 19mOhm; DC Resistance max.: 20.9mOhm; Saturation Current @10%: 7.9A; Saturation Current @30%: 15.1A; ComponentLink1Description: Manufacturer; ComponentLink1URL: http://www.we-online.de; ComponentLink2Description: Datasheet; ComponentLink2URL: https://www.we-online.com/catalog/datasheet/74437349033.pdf; Mounting Technology: SMT; Operating Temperature: -40 to +125degC; Packaging: Tape and Reel; Inductance: 3.3uH; Rated Current: 6A; Size: 7050; Height: 4.8mm; Length: 6.6mm; Width: 6.6mm
footprint WE-LHMI_7050
pins: 1, 2

## 74437349047
designator L?, comment 4.7uH, 5A
WE-LHMI SMT Power Inductor, size 7050, 4.7uH, 5A; Manufacturer: Wurth Elektronik; Manufacturer Part Number: 74437349047; Self Resonant Frequency: 24MHz; DC Resistance typ.: 28mOhm; DC Resistance max.: 30.8mOhm; Saturation Current @10%: 7.5A; Saturation Current @30%: 14.6A; ComponentLink1Description: Manufacturer; ComponentLink1URL: http://www.we-online.de; ComponentLink2Description: Datasheet; ComponentLink2URL: https://www.we-online.com/catalog/datasheet/74437349047.pdf; Mounting Technology: SMT; Operating Temperature: -40 to +125degC; Packaging: Tape and Reel; Inductance: 4.7uH; Rated Current: 5A; Size: 7050; Height: 4.8mm; Length: 6.6mm; Width: 6.6mm
footprint WE-LHMI_7050
pins: 1, 2

## 74437349056
designator L?, comment 5.6uH, 3.75A
WE-LHMI SMT Power Inductor, size 7050, 5.6uH, 3.75A; Manufacturer: Wurth Elektronik; Manufacturer Part Number: 74437349056; Self Resonant Frequency: 17MHz; DC Resistance typ.: 44mOhm; DC Resistance max.: 49mOhm; Saturation Current @10%: 6.6A; Saturation Current @30%: 16.5A; ComponentLink1Description: Manufacturer; ComponentLink1URL: http://www.we-online.de; ComponentLink2Description: Datasheet; ComponentLink2URL: https://www.we-online.com/catalog/datasheet/74437349056.pdf; Mounting Technology: SMT; Operating Temperature: -40 to +125degC; Packaging: Tape and Reel; Inductance: 5.6uH; Rated Current: 3.75A; Size: 7050; Height: 4.8mm; Length: 6.6mm; Width: 6.6mm
footprint WE-LHMI_7050
pins: 1, 2

## 74437349068
designator L?, comment 6.8uH, 3.5A
WE-LHMI SMT Power Inductor, size 7050, 6.8uH, 3.5A; Manufacturer: Wurth Elektronik; Manufacturer Part Number: 74437349068; Self Resonant Frequency: 16MHz; DC Resistance typ.: 46mOhm; DC Resistance max.: 51.5mOhm; Saturation Current @10%: 6.3A; Saturation Current @30%: 13.1A; ComponentLink1Description: Manufacturer; ComponentLink1URL: http://www.we-online.de; ComponentLink2Description: Datasheet; ComponentLink2URL: https://www.we-online.com/catalog/datasheet/74437349068.pdf; Mounting Technology: SMT; Operating Temperature: -40 to +125degC; Packaging: Tape and Reel; Inductance: 6.8uH; Rated Current: 3.5A; Size: 7050; Height: 4.8mm; Length: 6.6mm; Width: 6.6mm
footprint WE-LHMI_7050
pins: 1, 2

## 74437349082
designator L?, comment 8.2uH, 3.3A
WE-LHMI SMT Power Inductor, size 7050, 8.2uH, 3.3A; Manufacturer: Wurth Elektronik; Manufacturer Part Number: 74437349082; Self Resonant Frequency: 15MHz; DC Resistance typ.: 56mOhm; DC Resistance max.: 63mOhm; Saturation Current @10%: 6A; Saturation Current @30%: 12.2A; ComponentLink1Description: Manufacturer; ComponentLink1URL: http://www.we-online.de; ComponentLink2Description: Datasheet; ComponentLink2URL: https://www.we-online.com/catalog/datasheet/74437349082.pdf; Mounting Technology: SMT; Operating Temperature: -40 to +125degC; Packaging: Tape and Reel; Inductance: 8.2uH; Rated Current: 3.3A; Size: 7050; Height: 4.8mm; Length: 6.6mm; Width: 6.6mm
footprint WE-LHMI_7050
pins: 1, 2

## 74437349100
designator L?, comment 10uH, 3.2A
WE-LHMI SMT Power Inductor, size 7050, 10uH, 3.2A; Manufacturer: Wurth Elektronik; Manufacturer Part Number: 74437349100; Self Resonant Frequency: 12MHz; DC Resistance typ.: 65mOhm; DC Resistance max.: 69mOhm; Saturation Current @10%: 5.6A; Saturation Current @30%: 10.5A; ComponentLink1Description: Manufacturer; ComponentLink1URL: http://www.we-online.de; ComponentLink2Description: Datasheet; ComponentLink2URL: https://www.we-online.com/catalog/datasheet/74437349100.pdf; Mounting Technology: SMT; Operating Temperature: -40 to +125degC; Packaging: Tape and Reel; Inductance: 10uH; Rated Current: 3.2A; Size: 7050; Height: 4.8mm; Length: 6.6mm; Width: 6.6mm
footprint WE-LHMI_7050
pins: 1, 2

## 74437349150
designator L?, comment 15uH, 2.75A
WE-LHMI SMT Power Inductor, size 7050, 15uH, 2.75A; Manufacturer: Wurth Elektronik; Manufacturer Part Number: 74437349150; Self Resonant Frequency: 10MHz; DC Resistance typ.: 81mOhm; DC Resistance max.: 92mOhm; Saturation Current @10%: 3.5A; Saturation Current @30%: 7.2A; ComponentLink1Description: Manufacturer; ComponentLink1URL: http://www.we-online.de; ComponentLink2Description: Datasheet; ComponentLink2URL: https://www.we-online.com/catalog/datasheet/74437349150.pdf; Mounting Technology: SMT; Operating Temperature: -40 to +125degC; Packaging: Tape and Reel; Inductance: 15uH; Rated Current: 2.75A; Size: 7050; Height: 4.8mm; Length: 6.6mm; Width: 6.6mm
footprint WE-LHMI_7050
pins: 1, 2

## 74437349220
designator L?, comment 22uH, 2.1A
WE-LHMI SMT Power Inductor, size 7050, 22uH, 2.1A; Manufacturer: Wurth Elektronik; Manufacturer Part Number: 74437349220; Self Resonant Frequency: 8MHz; DC Resistance typ.: 140mOhm; DC Resistance max.: 170mOhm; Saturation Current @10%: 4.15A; Saturation Current @30%: 8.5A; ComponentLink1Description: Manufacturer; ComponentLink1URL: http://www.we-online.de; ComponentLink2Description: Datasheet; ComponentLink2URL: https://www.we-online.com/catalog/datasheet/74437349220.pdf; Mounting Technology: SMT; Operating Temperature: -40 to +125degC; Packaging: Tape and Reel; Inductance: 22uH; Rated Current: 2.1A; Size: 7050; Height: 4.8mm; Length: 6.6mm; Width: 6.6mm
footprint WE-LHMI_7050
pins: 1, 2

## 74437349330
designator L?, comment 33uH, 1.9A
WE-LHMI SMT Power Inductor, size 7050, 33uH, 1.9A; Manufacturer: Wurth Elektronik; Manufacturer Part Number: 74437349330; Self Resonant Frequency: 7.5MHz; DC Resistance typ.: 173mOhm; DC Resistance max.: 200mOhm; Saturation Current @10%: 2.6A; Saturation Current @30%: 4.75A; ComponentLink1Description: Manufacturer; ComponentLink1URL: http://www.we-online.de; ComponentLink2Description: Datasheet; ComponentLink2URL: https://www.we-online.com/catalog/datasheet/74437349330.pdf; Mounting Technology: SMT; Operating Temperature: -40 to +125degC; Packaging: Tape and Reel; Inductance: 33uH; Rated Current: 1.9A; Size: 7050; Height: 4.8mm; Length: 6.6mm; Width: 6.6mm
footprint WE-LHMI_7050
pins: 1, 2

## 74437349470
designator L?, comment 47uH, 1.45A
WE-LHMI SMT Power Inductor, size 7050, 47uH, 1.45A; Manufacturer: Wurth Elektronik; Manufacturer Part Number: 74437349470; Self Resonant Frequency: 7.3MHz; DC Resistance typ.: 290mOhm; DC Resistance max.: 330mOhm; Saturation Current @10%: 1.8A; Saturation Current @30%: 3.4A; ComponentLink1Description: Manufacturer; ComponentLink1URL: http://www.we-online.de; ComponentLink2Description: Datasheet; ComponentLink2URL: https://www.we-online.com/catalog/datasheet/74437349470.pdf; Mounting Technology: SMT; Operating Temperature: -40 to +125degC; Packaging: Tape and Reel; Inductance: 47uH; Rated Current: 1.45A; Size: 7050; Height: 4.8mm; Length: 6.6mm; Width: 6.6mm
footprint WE-LHMI_7050
pins: 1, 2